# Altium footprint library currentmode_buck.PCBLIB: 19 footprints (part 1 of 2)
Each footprint in its own frame and in the unit in brackets; x right, y up, seen from the top. Pads: shape width x height; smd on the part's side, far side on the other; paste and mask are expansions set on the pad; w line width, h text height; cw(c..) or ccw(c..) is an arc to the next point about the centre after c.
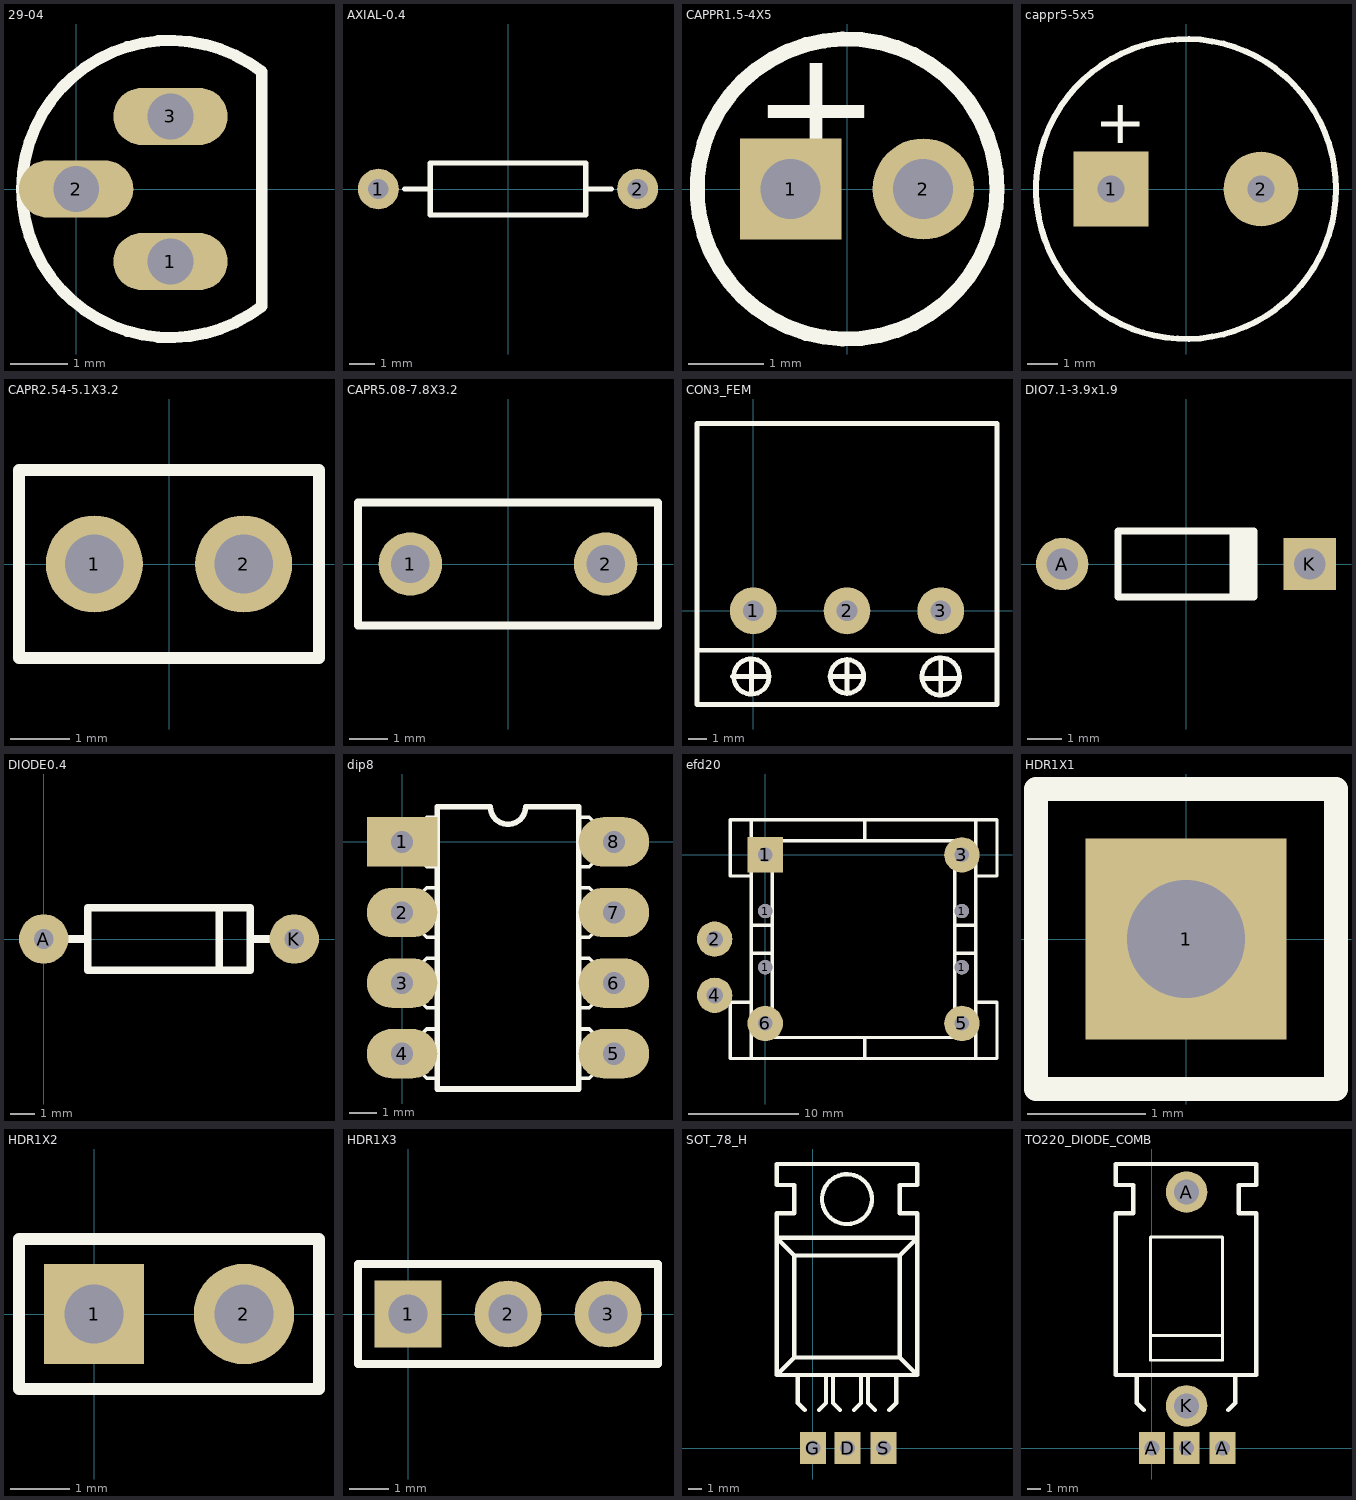
[diagram p0: the footprints below, top view; thin cyan lines are the x and y axes]

## 29-04 [mm]
pads (3):
  oval 2x1 hole 0.8: 1(1.651,-1.27) 2(0,0) 3(1.651,1.27)
TopOverlay:
  lines w0.2: 3.252,-2.049 cw(c1.651,0) 3.252,2.049 ; 3.251,-1.99 3.251,1.99

## AXIAL-0.4 [mm]
pads (2):
  round 1.6 hole 0.8: 1(-5.08,0) 2(5.08,0)
TopOverlay:
  lines w0.2: -4.064,0 -3.048,0 ; 3.048,0 4.064,0 ; -3.048,-1.016 -3.048,1.016 3.048,1.016 3.048,-1.016 -3.048,-1.016

## CAPPR1.5-4X5 [mm]
pads (2):
  rect 1.35x1.35 hole 0.8: 1(-0.75,0)
  round 1.35 hole 0.8: 2(1.016,0)
TopOverlay:
  circle w0.2: c0,0 r2
  text "+" at -1.27,0.381 h1.5

## cappr5-5x5 [mm]
pads (2):
  rect 2.5x2.5 hole 0.9: 1(-2.5,0)
  round 2.5 hole 0.9: 2(2.5,0)
TopOverlay:
  circle w0.2: c0,0 r5
  text "+" at -3.048,1.524 h1.5

## CAPR2.54-5.1X3.2 [mm]
pads (2):
  round 1.65 hole 1: 1(-1.27,0) 2(1.27,0)
TopOverlay:
  lines w0.2: -2.55,-1.6 2.55,-1.6 2.55,1.6 -2.55,1.6 -2.55,-1.6

## CAPR5.08-7.8X3.2 [mm]
pads (2):
  round 1.65 hole 1: 1(-2.54,0) 2(2.54,0)
TopOverlay:
  lines w0.2: -3.9,-1.6 -3.9,1.6 3.9,1.6 3.9,-1.6 -3.9,-1.6

## CON3_FEM [mm]
pads (3):
  round 2.5 hole 1.1: 1(0,0) 2(5,0) 3(10,0)
TopOverlay:
  circle w0.254: c-0.1,-3.5 r0.943
  circle w0.254: c5,-3.5 r0.894
  circle w0.254: c10,-3.5 r1
  lines w0.254: -3,-2.1 13,-2.1 ; -1.1,-3.5 0.843,-3.5 ; -0.1,-4.4 -0.1,-2.6 ; 4.1,-3.5 5.894,-3.5 ; 5,-4.4 5,-2.6 ; 9,-3.6 11,-3.6 ; 10,-4.5 10,-2.5 ; -3,-5 0,-5 10,-5 13,-5 13,-0.2 13,10 -3,10 -3,0 -3,-5

## DIO7.1-3.9x1.9 [mm]
pads (2):
  round 1.5 hole 0.9: A(-3.55,0)
  rect 1.5x1.5 hole 0.9: K(3.55,0)
TopOverlay:
  rectangle: 1.25,-0.95 2.05,0.95
  lines w0.2: 1.95,-0.95 -1.95,-0.95 -1.95,0.95 1.95,0.95

## DIODE0.4 [mil]
pads (2):
  round 79 hole 31.5: A(0,0) K(400,0)
TopOverlay:
  lines w12: 0,0 70,0 ; 280,-50 280,50 ; 330,0 400,0 ; 70,-50 70,50 330,50 330,-50 70,-50

## dip8 [mm]
pads (8):
  rect 2.54x1.778 hole 0.8: 1(0,0)
  oval 2.54x1.778 hole 0.8: 2(0,-2.54) 3(0,-5.08) 4(0,-7.62) 5(7.62,-7.62) 6(7.62,-5.08) 7(7.62,-2.54) 8(7.62,0)
TopOverlay:
  lines w0.127: 1.27,-8.509 0.889,-8.509 0.381,-8.001 0,-8.001 0,-7.239 0.381,-7.239 0.889,-6.731 1.27,-6.731 ; 1.27,-5.969 0.889,-5.969 0.381,-5.461 0,-5.461 0,-4.699 0.381,-4.699 0.889,-4.191 1.27,-4.191 ; 1.27,-3.429 0.889,-3.429 0.381,-2.921 0,-2.921 0,-2.159 0.381,-2.159 0.889,-1.651 1.27,-1.651 ; 1.27,-0.889 0.889,-0.889 0.381,-0.381 0,-0.381 0,0.381 0.381,0.381 0.889,0.889 1.27,0.889 ; 6.35,-8.509 6.731,-8.509 7.239,-8.001 7.62,-8.001 7.62,-7.239 7.239,-7.239 6.731,-6.731 6.35,-6.731 ; 6.35,-5.969 6.731,-5.969 7.239,-5.461 7.62,-5.461 7.62,-4.699 7.239,-4.699 6.731,-4.191 6.35,-4.191 ; 6.35,-3.429 6.731,-3.429 7.239,-2.921 7.62,-2.921 7.62,-2.159 7.239,-2.159 6.731,-1.651 6.35,-1.651 ; 6.35,-0.889 6.731,-0.889 7.239,-0.381 7.62,-0.381 7.62,0.381 7.239,0.381 6.731,0.889 6.35,0.889
  lines w0.203: 1.27,-8.89 6.35,-8.89 6.35,1.27 4.445,1.27 cw(c3.81,1.27) 3.175,1.27 1.27,1.27 1.27,-8.89

## efd20 [mm]
pads (10):
  round 1.3 hole 1.3 unplated: 1(0,-10.16) 1(0,-5.08) 1(17.78,-10.16) 1(17.78,-5.08)
  rect 3.2x3.2 hole 1.3: 1(0,0)
  round 3.2 hole 1.5: 2(-4.572,-7.62) 4(-4.572,-12.7)
  round 3.2 hole 1.3: 3(17.78,0) 5(17.78,-15.24) 6(0,-15.24)
TopOverlay:
  lines w0.305: -1.27,-13.335 -3.175,-13.335 -3.175,-18.415 -1.27,-18.415 ; -1.27,-8.89 0.635,-8.89 ; -1.27,-6.35 -0.635,-6.35 0.635,-6.35 ; -1.27,-1.905 -3.175,-1.905 -3.175,3.175 -1.27,3.175 ; 8.992,-18.415 8.992,-16.51 ; 8.992,1.295 8.992,3.2 ; 17.145,-8.89 19.05,-8.89 ; 17.145,-6.35 19.05,-6.35 ; 19.05,-13.335 20.955,-13.335 20.955,-18.415 19.05,-18.415 ; 19.05,-1.905 20.955,-1.905 20.955,3.175 19.05,3.175 ; -1.27,-18.415 -1.27,3.175 ; -1.27,-18.415 19.05,-18.415 ; -1.27,3.175 19.05,3.175 ; 19.05,-18.415 19.05,3.175 ; 0.635,-16.51 0.635,1.27 17.145,1.27 17.145,-16.51 0.635,-16.51

## HDR1X1 [mm]
pads (1):
  rect 1.7x1.7 hole 1: 1(0,0)
TopOverlay:
  lines w0.2: -1.27,-1.27 1.27,-1.27 1.27,1.27 -1.27,1.27 -1.27,-1.27

## HDR1X2 [mm]
pads (2):
  rect 1.7x1.7 hole 1: 1(0,0)
  round 1.7 hole 1: 2(2.54,0)
TopOverlay:
  lines w0.2: -1.27,-1.27 3.81,-1.27 3.81,1.27 -1.27,1.27 -1.27,-1.27

## HDR1X3 [mm]
pads (3):
  rect 1.7x1.7 hole 1: 1(0,0)
  round 1.7 hole 1: 2(2.54,0) 3(5.08,0)
TopOverlay:
  lines w0.2: -1.27,-1.27 6.35,-1.27 6.35,1.27 -1.27,1.27 -1.27,-1.27

## SOT_78_H [mm]
pads (3):
  rect 1.9x2.3 hole 1.1: D(2.5,0) G(0,0) S(5.1,0)
TopOverlay:
  circle w0.305: c2.46,17.984 r1.803
  lines w0.305: -2.493,5.411 -1.35,6.554 ; -1.096,5.284 -1.096,3.252 -0.588,2.744 ; 0.428,2.744 0.936,3.252 0.936,5.284 ; 1.444,5.284 1.444,3.252 1.952,2.744 ; 2.968,2.744 3.476,3.252 3.476,5.284 ; 3.984,5.284 3.984,3.252 4.492,2.744 ; 5.508,2.744 6.016,3.252 6.016,5.284 ; -1.35,6.554 6.27,6.554 ; -1.35,6.554 -1.35,13.92 ; -1.35,13.92 6.27,13.92 ; -1.35,13.92 -2.62,15.19 7.54,15.19 6.27,13.92 ; 6.27,6.554 6.27,13.92 ; 6.27,6.554 7.54,5.284 ; 7.54,5.284 -2.62,5.284 -2.62,16.968 -1.35,16.968 -1.35,19 -2.62,19 -2.62,20.524 7.54,20.524 7.54,19 6.27,19 6.27,16.968 7.54,16.968 7.54,5.284

## TO220_DIODE_COMB [mm]
pads (5):
  rect 1.9x2.3 hole 1.1: A(0,0) A(5.1,0) K(2.5,0)
  round 3 hole 1.8: A(2.5,18.498) K(2.5,3.048)
TopOverlay:
  lines w0.2: 0,8.128 5.1,8.128 ; -0.1,6.348 5.1,6.348 5.1,15.248 -0.1,15.248 -0.1,6.348
  lines w0.305: -1.096,5.284 -1.096,3.252 -0.588,2.744 ; 5.508,2.744 6.016,3.252 6.016,5.284 ; -2.62,5.284 7.54,5.284 7.54,16.968 6.27,16.968 6.27,19 7.54,19 7.54,20.524 -2.62,20.524 -2.62,19 -1.35,19 -1.35,16.968 -2.62,16.968 -2.62,5.284